# Altium footprint library DIP.PcbLib: 1 footprints
Each footprint in its own frame and in the unit in brackets; x right, y up, seen from the top. Pads: shape width x height; smd on the part's side, far side on the other; paste and mask are expansions set on the pad; w line width, h text height; cw(c..) or ccw(c..) is an arc to the next point about the centre after c.
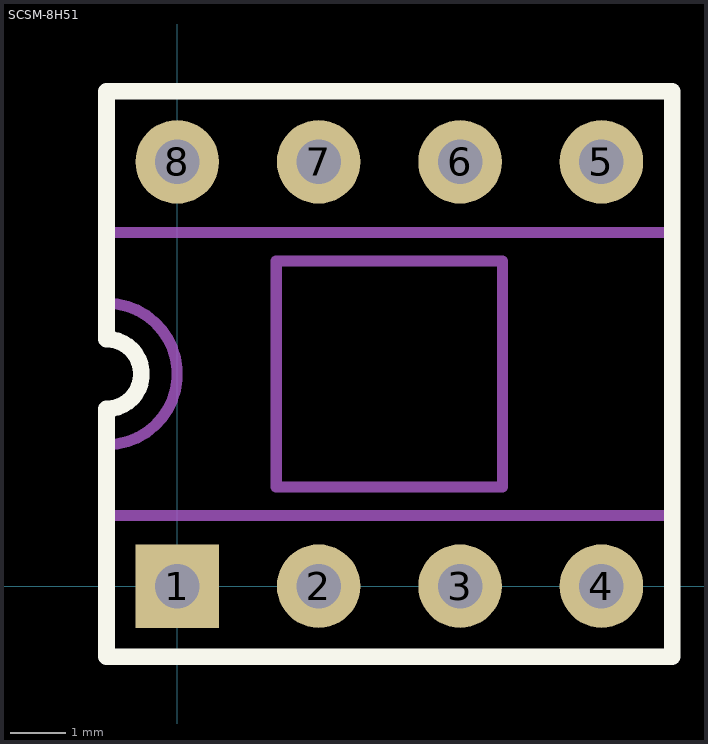
[diagram p0: the footprint, top view; thin cyan lines are the x and y axes]

## SCSM-8H51 [mm]
height 5.1
pads (8):
  rect 1.5x1.5 hole 0.8: 1(0,0)
  round 1.5 hole 0.8: 2(2.54,0) 3(5.08,0) 4(7.62,0) 5(7.62,7.62) 6(5.08,7.62) 7(2.54,7.62) 8(0,7.62)
Top Overlay:
  lines w0.3: -1.27,-1.27 8.89,-1.27 8.89,8.89 -1.27,8.89 -1.27,4.437 cw(c-1.27,3.81) -1.27,3.183 -1.27,-1.27
Mechanical 1:
  lines w0.2: -1.27,1.27 8.89,1.27 ; -1.27,6.35 8.89,6.35 ; 8.89,-1.27 -1.27,-1.27 -1.27,2.54 ccw(c-1.27,3.81) -1.27,5.08 -1.27,8.89 8.89,8.89 ; 1.778,1.778 5.842,1.778 5.842,5.842 1.778,5.842 1.778,1.778
  lines w0.25: 8.89,-1.27 8.89,8.89
  text "8" at -0.381,5.08 h1.5
  text ".Comment" at 1.17,2.62 h1.5
  text ".Designator" at 1.143,4.318 h1.5